# EAGLE library part EDS06SNNNTU04Q (library SamacSys_Parts)
DIP / SIP Switch, Raised Type, 6 Circuits, Slide, Surface Mount, SPST, 24 V, 25 mA Source: Datasheet <https://altium.componentsearchengine.com/Datasheets/2/EDS06SNNNTU04Q.pdf>
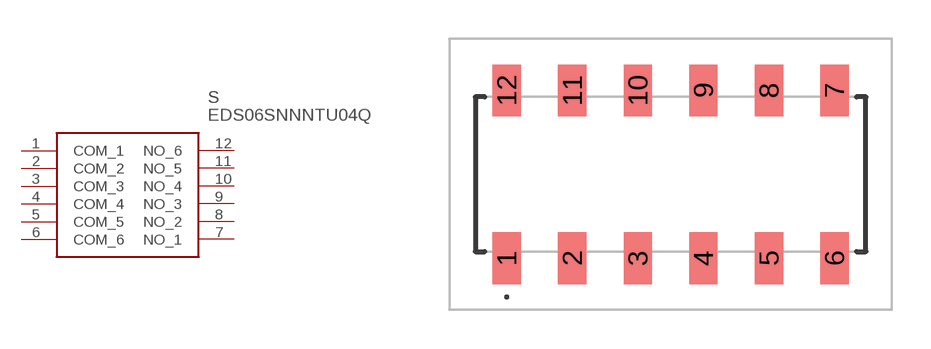
[diagram p49: symbol with the pads of EDS06SNNNTU04Q; footprint EDS06SNNNTU04Q]

Designator prefix S

## EDS06SNNNTU04Q (DESCRIPTION: DIP / SIP Switch, Raised Type, 6 Circuits, Slide, Surface Mount, SPST, 24 V, 25 mA; HEIGHT: 3.85mm; MANUFACTURER_NAME: TE Connectivity; MANUFACTURER_PART_NUMBER: EDS06SNNNTU04Q; MOUSER_PART_NUMBER: 506-EDS06SNNNTU04Q; MOUSER_PRICE-STOCK: https://www.mouser.co.uk/ProductDetail/TE-Connectivity-Alcoswitch/EDS06SNNNTU04Q?qs=wd5RIQLrsJgfY2tpE6nfug%3D%3D)  [EDS06SNNNTU04Q]
1  COM_1
2  COM_2
3  COM_3
4  COM_4
5  COM_5
6  COM_6
7  NO_1
8  NO_2
9  NO_3
10  NO_4
11  NO_5
12  NO_6

## Footprint EDS06SNNNTU04Q (pad centres in mm)
EDS06SNNNTU04Q-2
smd 1.1 x 2: 1 -6.35,-3.25; 2 -3.81,-3.25; 3 -1.27,-3.25; 4 1.27,-3.25; 5 3.81,-3.25; 6 6.35,-3.25; 7 6.35,3.25; 8 3.81,3.25; 9 1.27,3.25; 10 -1.27,3.25; 11 -3.81,3.25; 12 -6.35,3.25